# Altium footprint library CLAP.PcbLib: 265 footprints (part 4 of 17)
Each footprint in its own frame and in the unit in brackets; x right, y up, seen from the top. Pads: shape width x height; smd on the part's side, far side on the other; paste and mask are expansions set on the pad; w line width, h text height; cw(c..) or ccw(c..) is an arc to the next point about the centre after c.
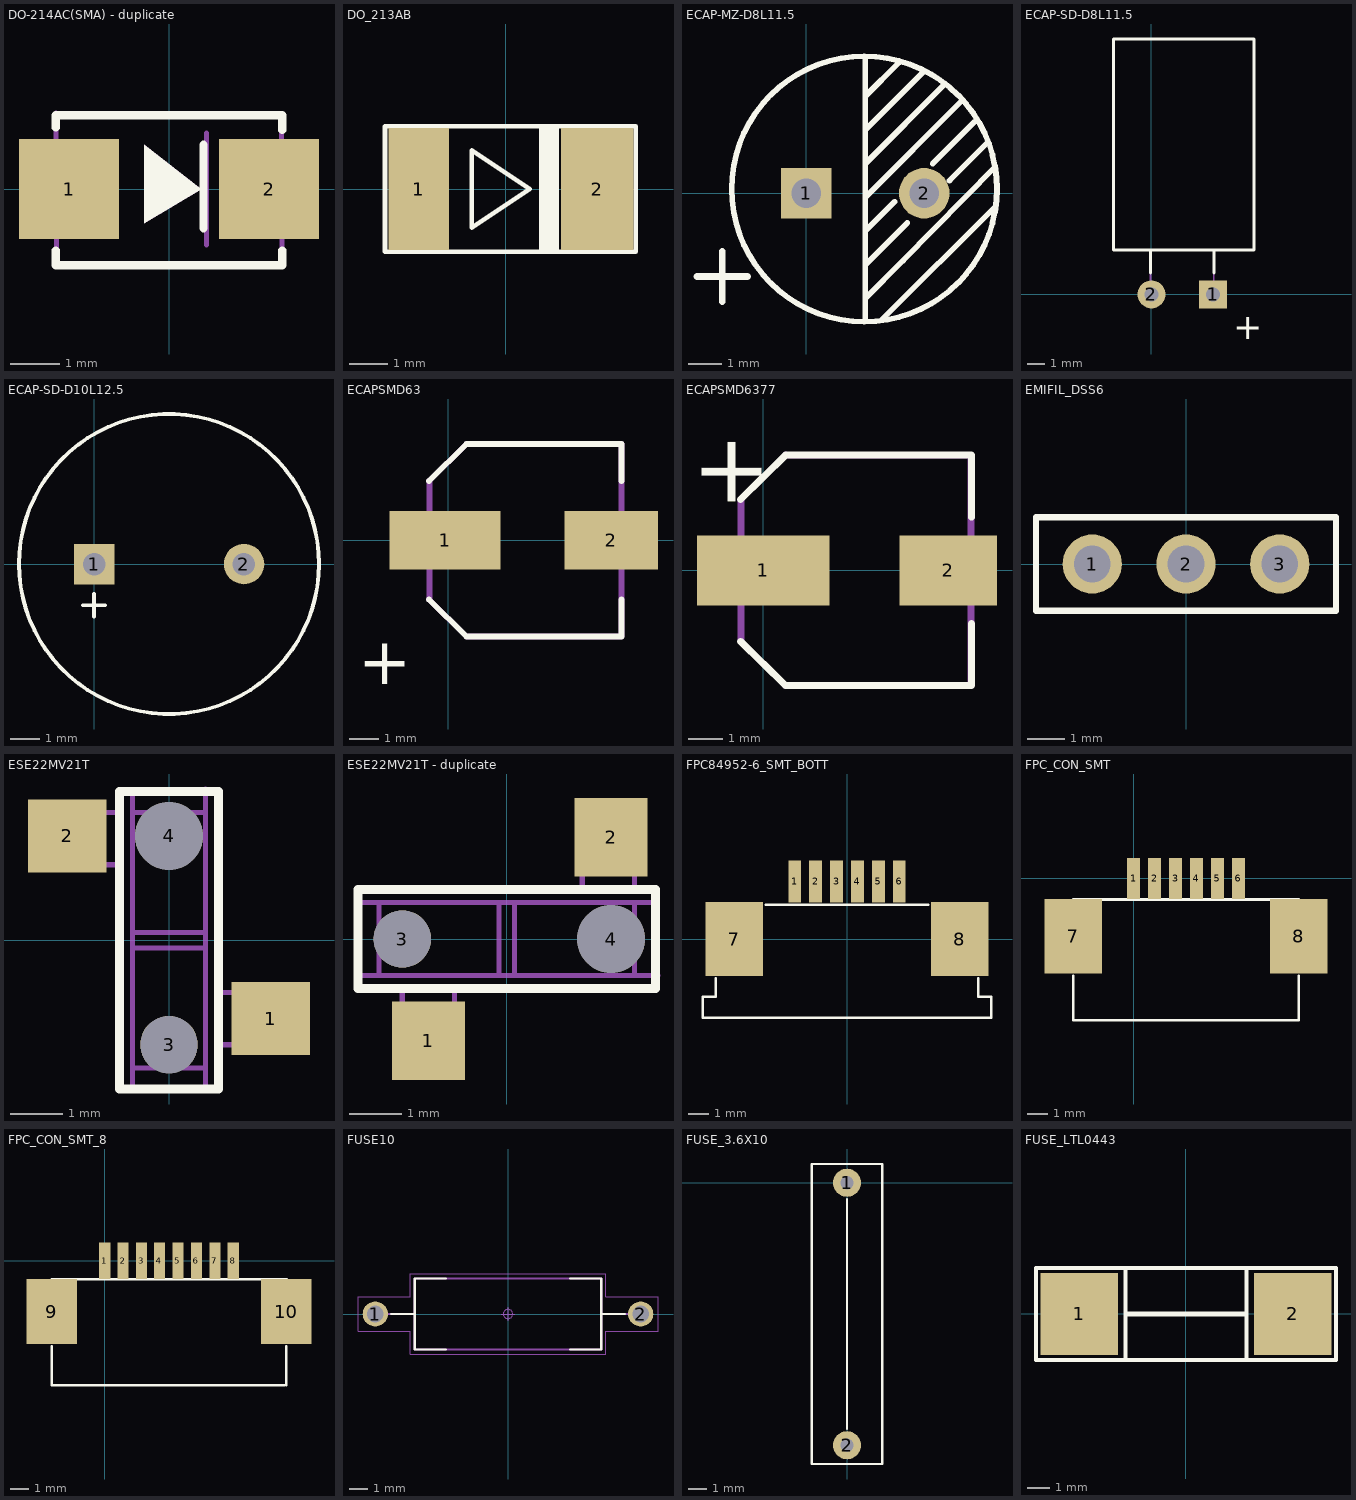
[diagram p3: the footprints below, top view; thin cyan lines are the x and y axes]

## DO-214AC(SMA) - duplicate [mil]
height 98.43
pads (2):
  rect 80x80 smd: 1(-80,0) 2(80,0)
Top Overlay:
  region: -19.68,35.43 -19.68,-27.56 25.63,0
  lines w6.69: -90.55,-49.21 -90.55,-61.02 90.55,-61.02 90.55,-49.21 ; -90.55,49.21 -90.55,59.06 90.55,59.06 90.55,47.24 ; 27.56,-31.5 27.56,35.43
Mechanical 1:
  region: -19.68,35.43 -19.68,-27.56 25.63,0
  lines w3.94: -90.55,61.02 -90,-60 90,-60 ; -90,60 90,60 90.55,-59.06 ; 30,-45 30,45
3D body "D_SMA.step": height 87.4, standoff 0, extent -98.42,-53.15 98.43,53.15

## DO_213AB [mm]
pads (2):
  rect 1.6x3.2 smd: 1(-2.286,0)
  rect 1.9x3.2 smd: 2(2.413,0)
Top Overlay:
  region: 0.889,1.651 0.889,-1.651 1.397,-1.651 1.397,1.651
  lines w0.127: -3.175,-1.651 -3.175,1.651 3.429,1.651 3.429,-1.651 -3.175,-1.651 ; -0.889,-1.016 -0.889,1.016 0.635,0 -0.889,-1.016
3D body "D_SMA.step": height 2.22, standoff 0, extent -2.5,-1.35 2.5,1.35

## ECAP-MZ-D8L11.5 [mil]
pads (2):
  rect 60x60 hole 35: 1(0,0)
  round 60 hole 35: 2(140,0)
Top Overlay:
  circle w6.69: c68.9,5 r157.48
  lines w6.69: 70,-150 70,160 ; 70,-125 115,-80 224.41,31.5 ; 70,-85 120,-35 ; 70,-45 105,-10 ; 70,0 70,-5 185,110 ; 70,35 165,130 ; 70,75 140,145 ; 70,115 110,155 ; 90,-150 225,-15 ; 150,35 200,85 ; 170,15 215,60
  lines w8: -129.65,-98.9 -69.65,-98.9 ; -99.65,-128.9 -99.65,-68.9
3D body "CAPPRD350W50.STEP": height 453.15, standoff -78.74, extent -88.58,-157.48 226.77,157.48

## ECAP-SD-D8L11.5 [mm]
height 0.203
pads (2):
  rect 1.6x1.6 hole 0.8: 1(3.5,0)
  round 1.6 hole 0.8: 2(0,0)
Top Overlay:
  lines w0.17: -0.06,1.22 -0.06,2.52 ; 3.54,1.22 3.54,2.52 ; -2.16,2.52 5.84,2.52 5.84,14.52 -2.16,14.52 -2.16,2.52
  text "+" at 4.64,-2.536 h1.44
Mechanical 1:
  lines w0.1: -0.06,0.02 -0.06,2.52 ; 3.54,0.02 3.54,2.52 ; -2.16,2.52 5.84,2.52 5.84,14.52 -2.16,14.52 -2.16,2.52
  text "+" at 4.53,-0.816 h1.44
3D body "cap_el_horizontal_d8_h11.5_pitch3.5_w0.6.stp": height 10.1, standoff -1, extent -2.25,-0.3 5.76,13.31

## ECAP-SD-D10L12.5 [mil]
pads (2):
  rect 54x54 hole 30: 1(0,0)
  round 54 hole 30: 2(200,0)
Top Overlay:
  circle w5: c100,0 r200
  lines w5: -15,-55 15,-55 ; 0,-70 0,-40
3D body "CP_Radial_D10.0mm_P5.00mm.step": height 393.7, standoff -78.74, extent -98.42,-196.81 295.28,196.85

## ECAPSMD63 [mm]
pads (2):
  rect 3.8x2 smd: 1(-0.1,0)
  rect 3.2x2 smd: 2(5.6,0)
Top Overlay:
  lines w0.2: -0.652,-2.032 0.635,-3.302 5.952,-3.302 5.952,-2.032 ; -0.652,2.032 0.635,3.302 5.952,3.302 5.952,2.032
  text "+" at -3.089,-4.93 h1.59
Mechanical 1:
  lines w0.2: -0.652,-2.032 0.635,-3.302 5.95,-3.3 5.95,3.3 0.635,3.302 -0.652,2.032 ; -0.635,-2.032 -0.635,2.032
  text "+" at -3.074,1.308 h1.59
3D body "CP_Elec_6.3x9.9.step": height 9.9, standoff 0, extent -0.9,-3.3 6.9,3.3

## ECAPSMD6377 [mm]
pads (2):
  rect 3.8x2 smd: 1(0,0)
  rect 2.8x2 smd: 2(5.3,0)
Top Overlay:
  lines w0.2: -0.652,-2.032 0.635,-3.302 5.952,-3.302 ; -0.652,2.032 0.635,3.302 5.952,3.302 ; 5.969,-3.302 5.969,-1.524 ; 5.969,1.524 5.969,3.302
  text "+" at -0.038,1.685 h1.98
Mechanical 1:
  lines w0.2: -0.635,-2.032 -0.635,2.032 ; 0.635,-3.302 5.95,-3.3 5.95,3.3 0.635,3.302
  text "+" at -0.038,1.685 h1.98
3D body "CP_Elec_6.3x7.7.step": height 7.7, standoff 0, extent -1.36,-3.3 6.44,3.3

## EMIFIL_DSS6 [mm]
pads (3):
  round 1.6 hole 1: 1(-2.54,0) 2(0,0) 3(2.54,0)
Top Overlay:
  lines w0.17: -4.064,-1.27 4.064,-1.27 4.064,1.27 -4.064,1.27 -4.064,-1.27
Mechanical 1:
  lines w0.1: -4.064,-1.27 4.064,-1.27 4.064,1.27 -4.064,1.27 -4.064,-1.27
3D body "SIP254W60P.STEP": height 7, standoff -2, extent -4,-1.27 4,1.27

## ESE22MV21T [mm]
pads (4):
  rect 1.5x1.4 smd: 1(1.95,-1.5) 2(-1.95,2)
  round 1.1 hole 1.1 unplated: 3(0,-2)
  round 1.3 hole 1.3 unplated: 4(0,2)
Top Overlay:
  lines w0.17: -0.95,-2.85 -0.95,2.85 0.95,2.85 0.95,-2.85 -0.95,-2.85
Mechanical 1:
  lines w0.1: -0.95,1.45 -2.2,1.45 -2.2,2.45 -0.95,2.45 ; -0.7,-2.85 -0.7,2.85 ; -0.7,-2.45 0.7,-2.45 ; -0.7,-0.15 0.7,-0.15 ; -0.7,0.15 0.7,0.15 ; -0.7,2.45 0.7,2.45 ; 0.7,-2.8 0.7,2.9 ; 0.95,-2 2.2,-2 2.2,-1 0.95,-1 ; -0.95,-2.85 -0.95,2.85 0.95,2.85 0.95,-2.85 -0.95,-2.85

## ESE22MV21T - duplicate [mm]
pads (4):
  rect 1.4x1.5 smd: 1(-1.5,-1.95) 2(2,1.95)
  round 1.1 hole 1.1 unplated: 3(-2,0)
  round 1.3 hole 1.3 unplated: 4(2,0)
Top Overlay:
  lines w0.17: -2.85,-0.95 -2.85,0.95 2.85,0.95 2.85,-0.95 -2.85,-0.95
Mechanical 1:
  lines w0.1: -2.85,0.7 2.85,0.7 ; -2.8,-0.7 2.9,-0.7 ; -2.45,-0.7 -2.45,0.7 ; -2,-0.95 -2,-2.2 -1,-2.2 -1,-0.95 ; -0.15,-0.7 -0.15,0.7 ; 0.15,-0.7 0.15,0.7 ; 1.45,0.95 1.45,2.2 2.45,2.2 2.45,0.95 ; 2.45,-0.7 2.45,0.7 ; -2.85,-0.95 -2.85,0.95 2.85,0.95 2.85,-0.95 -2.85,-0.95

## FPC84952-6_SMT_BOTT [mil]
pads (8):
  rect 24x80 smd: 1(-100,110) 2(-60,110) 3(-20,110) 4(20,110) 5(60,110) 6(100,110)
  rect 110x142 smd: 7(-215,0) 8(215,0)
Top Overlay:
  lines w5: -250,-75 -250,-110 -275,-110 -275,-150 275,-150 275,-110 250,-110 250,-75 ; -155,65 155,65
3D body "13m5785_84952-6.stp": height 99.02, standoff -1.77, extent -274.2,-140.55 274.22,116.93

## FPC_CON_SMT [mm]
pads (8):
  rect 0.61x2 smd: 1(0,0) 2(1.016,0) 3(2.032,0) 4(3.048,0) 5(4.064,0) 6(5.08,0)
  rect 2.8x3.6 smd: 7(-2.921,-2.794) 8(8.001,-2.794)
Top Overlay:
  lines w0.127: -2.921,-4.699 -2.921,-6.858 8.001,-6.858 8.001,-4.699 ; -2.921,-1.016 8.001,-1.016
3D body "13m5785_84952-6.stp": height 2.51, standoff -0.05, extent -4.425,-6.43 9.505,0.11

## FPC_CON_SMT_8 [mm]
pads (10):
  rect 0.61x2 smd: 1(0,0) 2(1.016,0) 3(2.032,0) 4(3.016,0) 5(4.032,0) 6(5.048,0) 7(6.064,0) 8(7.08,0)
  rect 2.8x3.6 smd: 9(-2.921,-2.794) 10(10.001,-2.794)
Top Overlay:
  lines w0.127: -2.921,-4.699 -2.921,-6.858 9.906,-6.858 ; -2.921,-1.016 10.033,-1.016 ; 10.001,-6.858 10.001,-4.699

## FUSE10 [mm] "Fuse, Axial; 14.224 mm C X 0.55 mm W 10.00 mm L X 3.80 mm Dia body"
height 4.5
pads (2):
  round 1.35 hole 0.9 paste-1.35: 1(-7.112,0) 2(7.112,0)
Top Overlay:
  lines w0.12: -6.25,0 -5,0 ; -3.33,-1.9 -5,-1.9 -5,1.9 -3.33,1.9 ; 3.33,-1.9 5,-1.9 5,1.9 3.33,1.9 ; 5,0 6.25,0
Mechanical 11:
  lines w0.12: -6.437,0 -5,0 ; 5,0 6.437,0 ; -5,-1.9 5,-1.9 5,1.9 -5,1.9 -5,-1.9
Mechanical 12:
  circle w0.025: c7.112,0 r0.35
  circle w0.025: c-7.112,0 r0.35
  lines w0.025: -5,-1.9 5,-1.9 5,1.9 -5,1.9 -5,-1.9
Mechanical 15:
  circle w0.05: c0,0 r0.25
  lines w0.05: -0.35,0 0.35,0 ; 0,-0.35 0,0.35 ; -8.037,-0.925 -5.25,-0.925 -5.25,-2.15 5.25,-2.15 5.25,-0.925 8.037,-0.925 8.037,0.925 5.25,0.925 5.25,2.15 -5.25,2.15 -5.25,0.925 -8.037,0.925 -8.037,-0.925
Mechanical 16:
  text ".Designator" at 0,0 h1.2
3D body "FUSE10.STEP": height 4.5, standoff -2, extent -7.387,-1.9 7.387,1.9

## FUSE_3.6X10 [mil]
pads (2):
  round 60 hole 28: 1(0,0) 2(0,-560)
Top Overlay:
  lines w5: 0,-525 0,-35 ; -75,-600 -75,40 75,40 75,-600 -75,-600
3D body "FUSE10.STEP": height 177.17, standoff -78.74, extent -74.81,-566.41 74.8,15.24

## FUSE_LTL0443 [mil]
pads (2):
  rect 134x142 smd: 1(-185,0) 2(185,0)
Top Overlay:
  lines w6.69: -105,-80 -105,80 ; 105,-80 105,80 ; -260,-80 -260,80 260,80 260,-80 -260,-80
  lines w7.87: -100,0 100,0